# EAGLE library part ADG801 (library raznoe01)
adg801 adg 801 adg-801
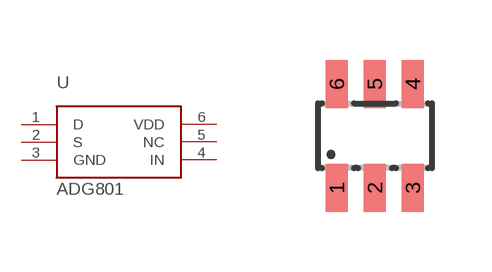
[diagram p1: symbol with the pads of SOT-23-6; footprint SOT-23-6]

Designator prefix -

## ADG801  [SOT-23-6]
1  D
2  S
3  GND
4  IN
5  NC
6  VDD

## Footprint SOT-23-6 (pad centres in mm)
sot sot23 sot-23 sot-23-6
smd 0.55 x 1.2: 1 -0.95,-1.3; 2 0,-1.3; 3 0.95,-1.3; 4 0.95,1.3; 5 0,1.3; 6 -0.95,1.3